# EAGLE library part WANNENSTECKER-30 (library iceberg20)
Wannenstecker, 30-pol, gerade, Rastermaß: 2,54 mm 2x 15-Pol Datenblatt: Link <https://cdn-reichelt.de/documents/datenblatt/C151/101532.pdf>
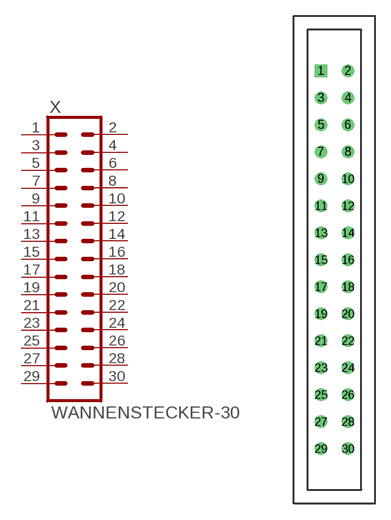
[diagram p8: symbol with the pads of 2X15; footprint 2X15]

Designator prefix X

## WANNENSTECKER-30 (BESTAND: 0; HERSTELLER: HARTING; HERSTELLER-NR: 09 18 530 6324; SUPPLIER: reichelt; SUPPLIER-NR: HAN 530 6324)  [2X15]
1  1  pas
2  2  pas
3  3  pas
4  4  pas
5  5  pas
6  6  pas
7  7  pas
8  8  pas
9  9  pas
10  10  pas
11  11  pas
12  12  pas
13  13  pas
14  14  pas
15  15  pas
16  16  pas
17  17  pas
18  18  pas
19  19  pas
20  20  pas
21  21  pas
22  22  pas
23  23  pas
24  24  pas
25  25  pas
26  26  pas
27  27  pas
28  28  pas
29  29  pas
30  30  pas

## Footprint 2X15 (pad centres in mm)
drill 0.7 square: 1 -1.27,17.78
drill 0.7: 2 1.27,17.78; 3 -1.27,15.24; 4 1.27,15.24; 5 -1.27,12.7; 6 1.27,12.7; 7 -1.27,10.16; 8 1.27,10.16; 9 -1.27,7.62; 10 1.27,7.62; 11 -1.27,5.08; 12 1.27,5.08; 13 -1.27,2.54; 14 1.27,2.54; 15 -1.27,0; 16 1.27,0; 17 -1.27,-2.54; 18 1.27,-2.54; 19 -1.27,-5.08; 20 1.27,-5.08; 21 -1.27,-7.62; 22 1.27,-7.62; 23 -1.27,-10.16; 24 1.27,-10.16; 25 -1.27,-12.7; 26 1.27,-12.7; 27 -1.27,-15.24; 28 1.27,-15.24; 29 -1.27,-17.78; 30 1.27,-17.78